# Altium footprint library PcbLib1.PcbLib: 36 footprints (part 3 of 3)
Each footprint in its own frame and in the unit in brackets; x right, y up, seen from the top. Pads: shape width x height; smd on the part's side, far side on the other; paste and mask are expansions set on the pad; w line width, h text height; cw(c..) or ccw(c..) is an arc to the next point about the centre after c.
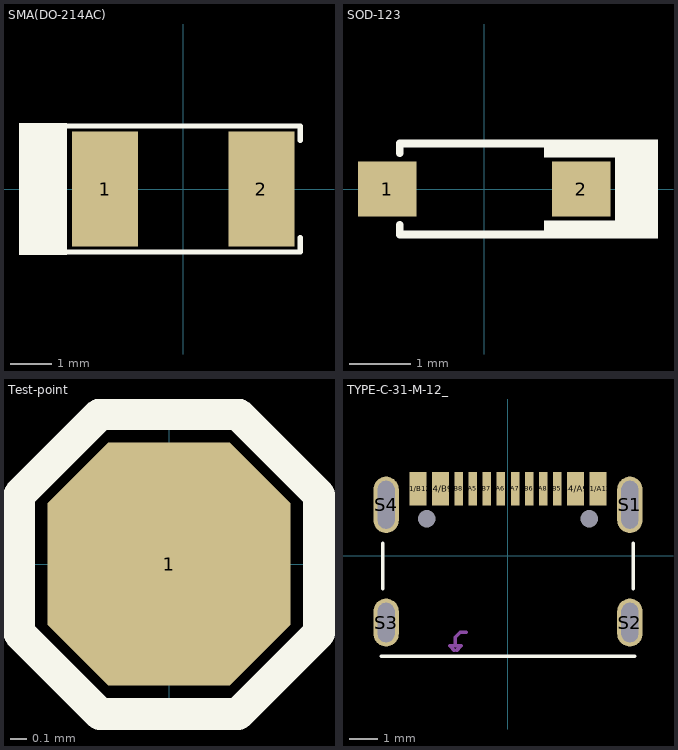
[diagram p2: the footprints below, top view; thin cyan lines are the x and y axes]

## SMA(DO-214AC) [mm]
pads (2):
  rect 1.6x2.8 smd: 1(-1.9,0) 2(1.9,0)
Top Overlay:
  rectangle: -3.992,-1.6 -2.825,1.6
  lines w0.127: -2.983,-1.533 2.842,-1.533 2.842,-1.183 ; -2.983,1.533 2.842,1.533 2.842,1.183
3D body "SMA (DO-214AC).STEP": height 2.3, standoff 0, extent -2.6,-1.45 2.6,1.45

## SOD-123 [mm]
pads (2):
  rect 0.95x0.9 smd: 1(-1.575,0) 2(1.575,0)
Top Overlay:
  rectangle: 0.965,0.508 2.819,0.8
  rectangle: 2.12,-0.787 2.819,0.787
  rectangle: 0.965,-0.8 2.819,-0.508
  lines w0.127: -1.372,-0.584 -1.372,-0.737 0.965,-0.737 ; -1.372,0.584 -1.372,0.737 0.965,0.737
3D body "1N5819HW-7-F--3DModel-STEP-56544.STEP": height 1.5, standoff -0.03, extent -1.825,-0.775 1.825,0.775

## Test-point [mil]
pads (1):
  oct 60x60 smd: 1(0,0)
Top Overlay:
  lines w7.87: -37,-17 -37,17 -17,37 17,37 37,17 37,-17 17,-37 -17,-37 -37,-17

## TYPE-C-31-M-12_ [mm]
pads (18):
  rect 0.6x1.2 smd: A1/B12(-3.2,2.375) A4/B9(-2.4,2.375) B1/A12(3.2,2.375) B4/A9(2.4,2.375)
  rect 0.3x1.2 smd: A5(-1.25,2.375) A6(-0.25,2.375) A7(0.25,2.375) A8(1.25,2.375) B5(1.75,2.375) B6(0.75,2.375) B7(-0.75,2.375) B8(-1.75,2.375)
  round 0 hole 0.62 unplated: MH(-2.89,1.305) MH(2.89,1.305)
  oval 0.9x2 hole 0.6 slot 1.7 at 90 deg: S1(4.325,1.805) S4(-4.325,1.805)
  oval 0.9x1.7 hole 0.6 slot 1.4 at 90 deg: S2(4.325,-2.375) S3(-4.325,-2.375)
Top Overlay:
  lines w0.127: -4.495,-3.569 4.495,-3.569 ; -4.445,-1.181 -4.445,0.445 ; 4.445,-1.181 4.445,0.445
Mechanical 13:
  lines w0.127: -1.908,-3.365 -2.072,-3.202 -1.868,-3.202 ; -1.828,-3.365 -1.665,-3.202 -1.868,-3.202 ; -1.487,-2.72 -1.691,-2.72 -1.868,-2.897 -1.868,-3.202
  text "PCB Edge" at -1.338,-2.999 h0.8
3D body "TYPE-C-31-M-12--3DModel-STEP-56544.STEP": height 3.31, standoff -0.99, extent -4.47,-5.013 4.47,2.892